# EAGLE library part 796689-7 (library con-tyco)
TERMINAL BLOCK 5 mm, Euro Style
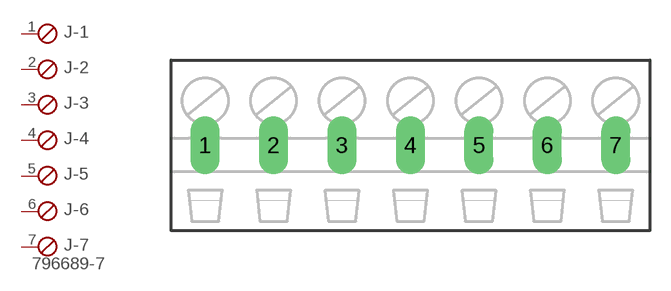
[diagram p11: symbol with the pads of 796689-7; footprint 796689-7]

Designator prefix J; gates -1=SKB -2=SKB -3=SKB -4=SKB -5=SKB -6=SKB -7=SKBV

## 796689-7  [796689-7]
1  -1:1  pas
2  -2:1  pas
3  -3:1  pas
4  -4:1  pas
5  -5:1  pas
6  -6:1  pas
7  -7:1  pas

## Footprint 796689-7 (pad centres in mm)
TERMINAL BLOCK 5 mm pitch
drill 1.422 long: 1 -15,0; 2 -10,0; 3 -5,0; 4 0,0; 5 5,0; 6 10,0; 7 15,0